# Altium schematic symbol library 滤波器.SchLib: 1 symbol
Pins are listed as number, name and electrical type; pins without a type are passive.

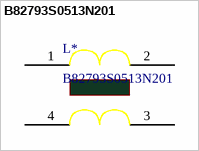
[diagram p0: symbol B82793S0513N201]

## B82793S0513N201
designator L*
pins: 1, 2, 3, 4